# EAGLE library part TJA1100 (library TJA1100)
Single Twisted Pair Ethernet PHY Chip with both RMII and MII interfaces As 100BASE-T1 provides a full-duplex bi-directional communication, the standard MII signals COL and CRS are not needed. Datasheet can be found here <https://www.nxp.com/docs/en/data-sheet/TJA1100.pdf>.
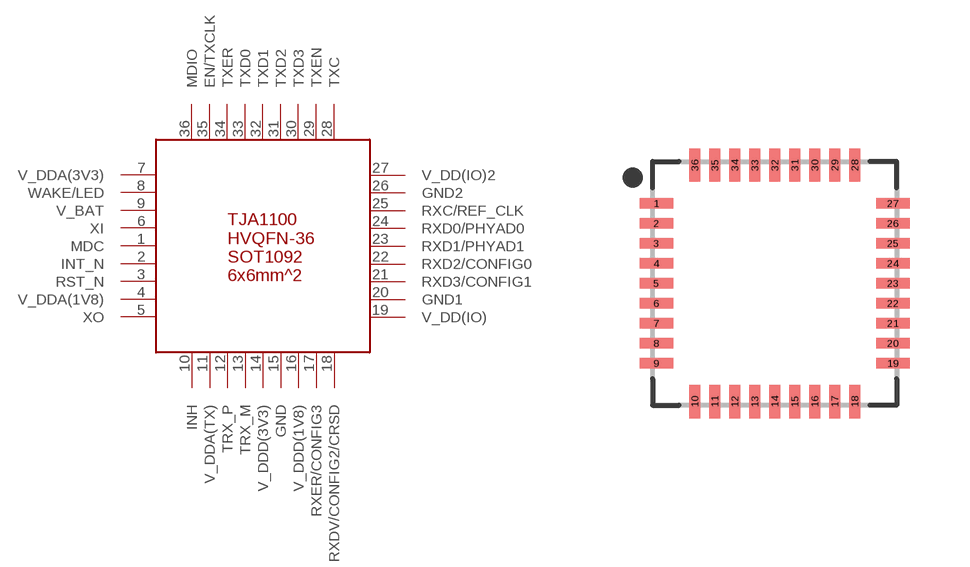
[diagram p0: symbol with the pads of QFN50P605X605X100-36; footprint QFN50P605X605X100-36]

Designator prefix -

## TJA1100  [QFN50P605X605X100-36]
1  MDC
2  INT_N
3  RST_N
4  V_DDA(1V8)
5  XO
6  XI
7  V_DDA(3V3)
8  WAKE/LED
9  V_BAT
10  INH
11  V_DDA(TX)
12  TRX_P
13  TRX_M
14  V_DDD(3V3)
15  GND
16  V_DDD(1V8)
17  RXER/CONFIG3
18  RXDV/CONFIG2/CRSD
19  V_DD(IO)
20  GND1
21  RXD3/CONFIG1
22  RXD2/CONFIG0
23  RXD1/PHYAD1
24  RXD0/PHYAD0
25  RXC/REF_CLK
26  GND2
27  V_DD(IO)2
28  TXC
29  TXEN
30  TXD3
31  TXD2
32  TXD1
33  TXD0
34  TXER
35  EN/TXCLK
36  MDIO

## Footprint QFN50P605X605X100-36 (pad centres in mm)
36-QFN, 0.50 mm pitch, 6.05 X 6.05 X 1.00 mm body 36-pin QFN package with 0.50 mm pitch with body size 6.05 X 6.05 X 1.00 mm
smd 0.835 x 0.27: 1 -2.958,2; 2 -2.958,1.5; 3 -2.958,1; 4 -2.958,0.5; 5 -2.958,0; 6 -2.958,-0.5; 7 -2.958,-1; 8 -2.958,-1.5; 9 -2.958,-2; 19 2.958,-2; 20 2.958,-1.5; 21 2.958,-1; 22 2.958,-0.5; 23 2.958,0; 24 2.958,0.5; 25 2.958,1; 26 2.958,1.5; 27 2.958,2
smd 0.27 x 0.835: 10 -2,-2.958; 11 -1.5,-2.958; 12 -1,-2.958; 13 -0.5,-2.958; 14 0,-2.958; 15 0.5,-2.958; 16 1,-2.958; 17 1.5,-2.958; 18 2,-2.958; 28 2,2.958; 29 1.5,2.958; 30 1,2.958; 31 0.5,2.958; 32 0,2.958; 33 -0.5,2.958; 34 -1,2.958; 35 -1.5,2.958; 36 -2,2.958